# EAGLE library part ATTINY85 (library ERIC)
ATtiny25/45/85
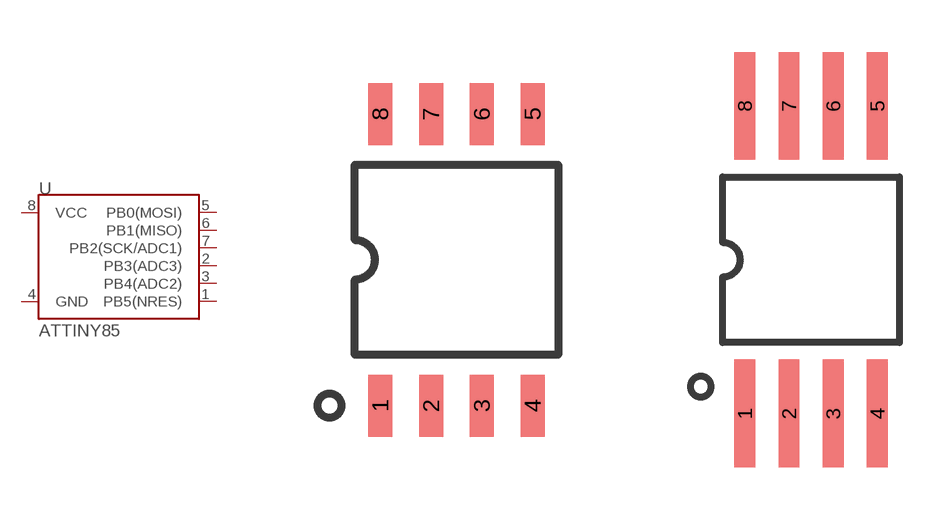
[diagram p6: symbol with the pads of SOIC_8_W; footprints SOIC_8_W, SOIC8_WL]

Designator prefix U

## ATTINY85SOICW  [SOIC_8_W]
1  PB5(NRES)
2  PB3(ADC3)
3  PB4(ADC2)
4  GND
5  PB0(MOSI)
6  PB1(MISO)
7  PB2(SCK/ADC1)
8  VCC

## ATTINY85SOICWL  [SOIC8_WL]
Pads as for SOIC_8_W

## ATTINY85QFN  [QFN_20_4X4]
1  PB5(NRES)
2  PB3(ADC3)
5  PB4(ADC2)
8  GND
11  PB0(MOSI)
12  PB1(MISO)
14  PB2(SCK/ADC1)
15  VCC
EP  GND

## ATTINY858S2  [ATMEL_8S2_SOIC]
Pads as for SOIC_8_W

## ATTINY8520M1  [ATMEL_20M1]
1  PB5(NRES)
2  PB3(ADC3)
5  PB4(ADC2)
8  GND
11  PB0(MOSI)
12  PB1(MISO)
14  PB2(SCK/ADC1)
15  VCC
TH  GND

## Footprint SOIC_8_W (pad centres in mm)
smd 0.6 x 1.55: 1 -1.905,-3.65; 2 -0.635,-3.65; 3 0.635,-3.65; 4 1.905,-3.65; 5 1.905,3.65; 6 0.635,3.65; 7 -0.635,3.65; 8 -1.905,3.65

## Footprint SOIC8_WL (pad centres in mm)
smd 0.6 x 3.1: 1 -1.905,-4.425; 2 -0.635,-4.425; 3 0.635,-4.425; 4 1.905,-4.425; 5 1.905,4.425; 6 0.635,4.425; 7 -0.635,4.425; 8 -1.905,4.425

## Footprint QFN_20_4X4 (pad centres in mm)
20-Lead Plastic Quad Flat, No Lead Package (ML) - 4x4 mm Body [QNF] With 0.40 mm Contact Length page 245
smd 0.73 x 0.25: 1 -1.965,1; 2 -1.965,0.5; 3 -1.965,0; 4 -1.965,-0.5; 5 -1.965,-1; 11 1.965,-1; 12 1.965,-0.5; 13 1.965,0; 14 1.965,0.5; 15 1.965,1
smd 0.25 x 0.73: 6 -1,-1.965; 7 -0.5,-1.965; 8 0,-1.965; 9 0.5,-1.965; 10 1,-1.965; 16 1,1.965; 17 0.5,1.965; 18 0,1.965; 19 -0.5,1.965; 20 -1,1.965
smd 2.35 x 2.35: EP 0,0

## Footprint ATMEL_8S2_SOIC (pad centres in mm)
8s2 wide body SOIC 8 Taken from the ATtiny25/45/85 datasheet.
smd 1.13 x 0.48: 1 -3.565,1.905; 2 -3.565,0.635; 3 -3.565,-0.635; 4 -3.565,-1.905; 5 3.565,-1.905; 6 3.565,-0.635; 7 3.565,0.635; 8 3.565,1.905

## Footprint ATMEL_20M1 (pad centres in mm)
smd 0.65 x 0.23: 1 -1.875,1; 2 -1.875,0.5; 3 -1.875,0; 4 -1.875,-0.5; 5 -1.875,-1; 11 1.875,-1; 12 1.875,-0.5; 13 1.875,0; 14 1.875,0.5; 15 1.875,1
smd 0.23 x 0.65: 6 -1,-1.875; 7 -0.5,-1.875; 8 0,-1.875; 9 0.5,-1.875; 10 1,-1.875; 16 1,1.875; 17 0.5,1.875; 18 0,1.875; 19 -0.5,1.875; 20 -1,1.875
smd 2.08 x 2.08: TH 0,0